# Altium footprint library th_cap.PcbLib: 14 footprints
Each footprint in its own frame and in the unit in brackets; x right, y up, seen from the top. Pads: shape width x height; smd on the part's side, far side on the other; paste and mask are expansions set on the pad; w line width, h text height; cw(c..) or ccw(c..) is an arc to the next point about the centre after c.
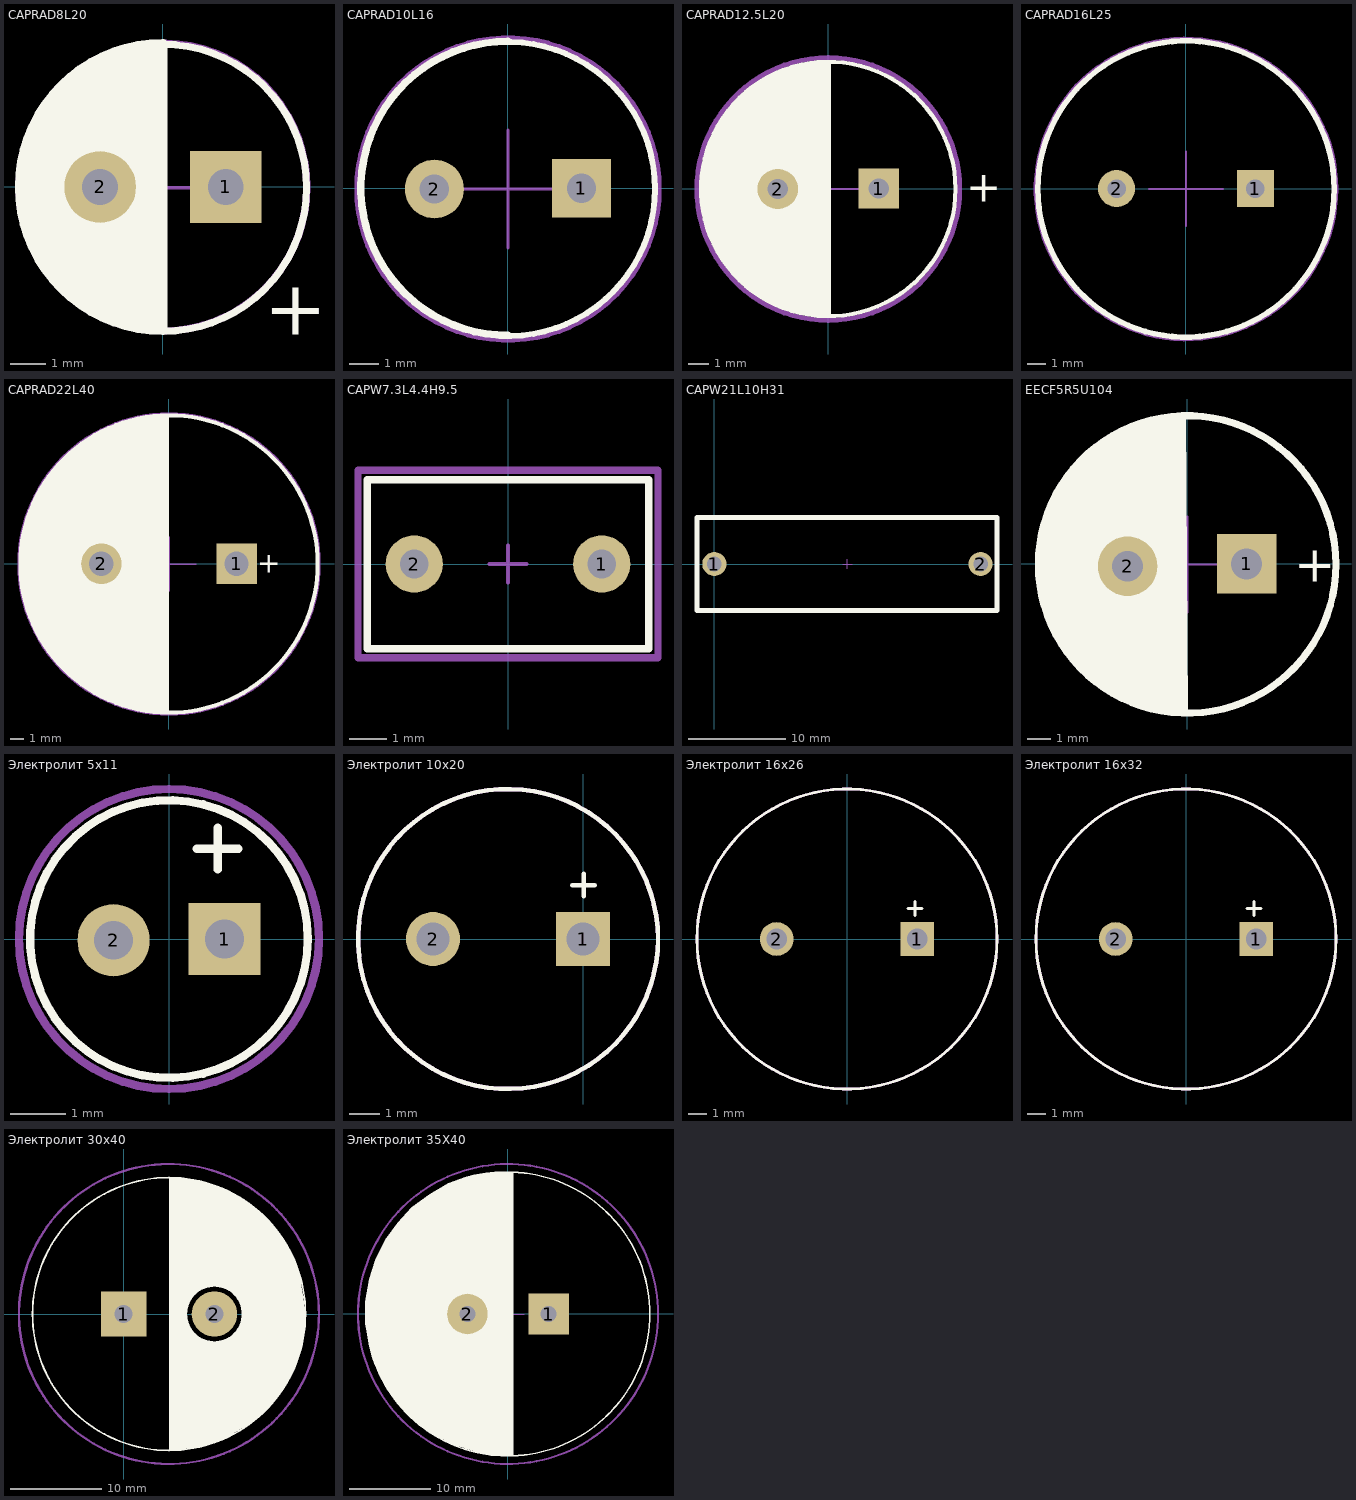
[diagram p0: the footprints below, top view; thin cyan lines are the x and y axes]

## CAPRAD8L20 [mm] "Jamicon 1000uFx16V"
pads (2):
  rect 2x2 hole 1: 1(1.75,0)
  round 2 hole 1: 2(-1.75,0)
Top Overlay:
  circle w0.2: c0.002,-0.023 r4
  region: 0.002,-4 -0.313,-4 -0.935,-3.902 -1.533,-3.707 -2.094,-3.421 -2.604,-3.051 -3.049,-2.606 -3.419,-2.097 -3.705,-1.536 -3.899,-0.937 -3.998,-0.315 -3.998,0.315 -3.899,0.937 -3.705,1.535 -3.419,2.096 -3.049,2.606 -2.604,3.051 -2.094,3.421 -1.533,3.707 -0.935,3.901 -0.313,4 0.002,4
  lines w0.254: 0,-4 cw(c0,0) 0,4 0,-4
  text "+" at 2.826,-4.125 h1.52
Bottom Overlay:
  text "+" at 2.826,-4.102 h1.52
Mechanical 15:
  lines w0.1: -1.998,-0.023 2.002,-0.023 ; 0.002,-2.023 0.002,1.977
Mechanical 29:
  circle w0.2: c0,0 r4.011
  text ".Designator" at -2.1,1.3 h2
3D body "CAPRAD8L20.step": height 19.83, standoff -3.34, extent -3.976,-4 4,3.976

## CAPRAD10L16 [mm] "Jamicon 1000uFx16V"
pads (2):
  rect 2x2 hole 1: 1(2.5,0)
  round 2 hole 1: 2(-2.5,-0.023)
Top Overlay:
  circle w0.2: c0.002,-0.023 r5
  lines w0.254: 0,-5 cw(c0,0) 0,5
Mechanical 15:
  circle w0.254: c0.002,-0.023 r5.1
  lines w0.1: -1.998,-0.023 2.002,-0.023 ; 0.002,-2.023 0.002,1.977
3D body "Cap electro 10x16x5_0mm.step": height 16.33, standoff -3.94, extent -5.025,-5.025 5.025,5.025

## CAPRAD12.5L20 [mm] "Jamicon 22uFx250V"
pads (2):
  rect 2x2 hole 1: 1(2.5,0)
  round 2 hole 1: 2(-2.5,-0.023)
Top Overlay:
  circle w0.2: c0.002,-0.023 r6.3
  region: 0,-6.249 -0.351,-6.249 -1.048,-6.17 -1.733,-6.014 -2.395,-5.782 -3.027,-5.478 -3.622,-5.104 -4.17,-4.667 -4.667,-4.17 -5.104,-3.622 -5.478,-3.027 -5.782,-2.395 -6.014,-1.733 -6.17,-1.048 -6.249,-0.351 -6.249,0.351 -6.17,1.048 -6.014,1.733 -5.782,2.395 -5.478,3.027 -5.104,3.622 -4.667,4.17 -4.17,4.667 -3.622,5.104 -3.027,5.478 -2.395,5.782 -1.733,6.014 -1.048,6.17 -0.351,6.249 0,6.249
  lines w0.254: 0,-6.249 cw(c0,0) 0,6.249 0,-6.249
  text "+" at 6.833,-0.66 h1.52
Bottom Overlay:
  text "+" at 6.833,-0.66 h1.52
Mechanical 15:
  circle w0.254: c0.002,-0.023 r6.5
  lines w0.1: -1.998,-0.023 2.002,-0.023 ; 0.002,-2.023 0.002,1.977
3D body "Cap-EL(12_5x20-5)T.step": height 20.7, standoff -3.3, extent -6.252,-6.242 6.25,6.241

## CAPRAD16L25 [mm] "TKR102M1JK32, 100u/63V"
pads (2):
  rect 2x2 hole 1: 1(3.75,0)
  round 2 hole 1: 2(-3.75,0)
Top Overlay:
  circle w0.3: c0.002,-0.023 r8
Mechanical 15:
  circle w0.254: c0.002,-0.023 r8.1
  lines w0.1: -1.998,-0.023 2.002,-0.023 ; 0,-2 0,2 ; 0.002,-2.023 0.002,1.977
3D body "CAP JAMICON_TK_D(16)F(7_5)L(25).STEP": height 25.23, standoff -1.3, extent -8.03,-8 7.986,8

## CAPRAD22L40 [mm] "ECAP 1000uFx100V"
pads (2):
  rect 3x3 hole 1.8: 1(5,0)
  round 3 hole 1.8: 2(-5,0)
Top Overlay:
  circle w0.3: c0.002,-0.023 r11
  region: 0,-10.987 -0.48,-10.987 -1.436,-10.904 -2.382,-10.737 -3.309,-10.488 -4.211,-10.16 -5.081,-9.754 -5.912,-9.275 -6.698,-8.724 -7.433,-8.107 -8.112,-7.428 -8.729,-6.693 -9.28,-5.907 -9.76,-5.075 -10.165,-4.205 -10.494,-3.303 -10.742,-2.376 -10.909,-1.431 -10.992,-0.475 -10.992,0.485 -10.909,1.441 -10.742,2.387 -10.494,3.314 -10.165,4.216 -9.76,5.086 -9.28,5.917 -8.729,6.703 -8.112,7.439 -7.433,8.117 -6.698,8.734 -5.912,9.285 -5.081,9.765 -4.211,10.17 -3.309,10.499 -2.382,10.747 -1.436,10.914 -0.48,10.998 0,10.998
  text "+" at 6.528,-0.66 h1.52
Bottom Overlay:
  text "+" at 6.528,-0.66 h1.52
Mechanical 15:
  circle w0.254: c0.002,-0.023 r11.1
  lines w0.1: -1.998,-0.023 2.002,-0.023 ; 0.002,-2.023 0.002,1.977
3D body "Cap electrolitic radial 22x40.STEP": height 40.6, standoff -0.9, extent -10.996,-10.998 10.996,10.985

## CAPW7.3L4.4H9.5 [mil] "Epcos B32529C0105K000, К73-17 имп, 1 мкФ, 63 В, 10%, Конденсатор металлоплёночный"
pads (2):
  round 60 hole 30: 1(98.43,0) 2(-98.43,0)
Top Overlay:
  lines w7.87: -147.64,-88.88 147.64,-88.88 147.64,88.28 -147.64,88.28 -147.64,-88.88
Mechanical 15:
  lines w3.94: -19.68,0 19.68,0 ; 0,-19.68 0,19.68
  lines w7.87: -157.48,-98.43 157.48,-98.43 157.48,98.43 -157.48,98.43 -157.48,-98.43
3D body "CAP_MKT_B32529.step": height 255.91, standoff -70.92, extent -143.7,-59.06 143.7,59.06

## CAPW21L10H31 [mm] "К73-17 1мкФ/400В"
height 31
pads (2):
  round 2.5 hole 1.5: 1(0,0) 2(27.5,0)
Top Overlay:
  lines w0.5: -1.8,-4.8 -1.8,4.8 29.2,4.8 29.2,-4.8 -1.8,-4.8
Mechanical 15:
  lines w0.1: 13.25,0 14.25,0 ; 13.75,-0.5 13.75,0.5
  lines w0.2: -1.8,-4.8 29.2,-4.8 29.2,4.7 -1.8,4.7 -1.8,-4.8
3D body "K73-17.STEP": height 20.4, standoff -0.62, extent -1.8,-4.755 29.2,4.755

## EECF5R5U104 [mm] "ECAP 1000uFx100V"
height 10
pads (2):
  rect 2.5x2.5 hole 1.3: 1(2.5,0.005)
  round 2.5 hole 1.3: 2(-2.5,-0.098)
Top Overlay:
  circle w0.3: c0.002,-0.023 r6.25
  region: 0.023,-6.242 -0.286,-6.246 -0.903,-6.193 -1.511,-6.079 -2.105,-5.907 -2.68,-5.677 -3.229,-5.392 -3.747,-5.054 -4.23,-4.667 -4.673,-4.235 -5.071,-3.762 -5.421,-3.251 -5.719,-2.709 -5.962,-2.141 -6.149,-1.551 -6.277,-0.945 -6.345,-0.33 -6.349,-0.021 -6.349,0.288 -6.288,0.902 -6.168,1.508 -5.988,2.099 -5.752,2.67 -5.461,3.215 -5.118,3.728 -4.726,4.206 -4.289,4.643 -3.812,5.034 -3.298,5.378 -2.753,5.669 -2.183,5.905 -1.592,6.084 -0.986,6.205 -0.371,6.265 -0.062,6.265
  text "+" at 4.5,-0.75 h1.52
Bottom Overlay:
  text "+" at 6.528,-0.66 h1.52
Mechanical 15:
  circle w0.254: c0.002,-0.023 r6.25
  lines w0.1: -1.998,-0.023 2.002,-0.023 ; 0.002,-2.023 0.002,1.977
3D body "EECF5R5U104.STEP": height 7.6, standoff -4.9, extent -6.523,-6.548 6.516,6.502

## Электролит 5x11 [mm]
pads (2):
  rect 1.3x1.3 hole 0.7: 1(1,0)
  round 1.3 hole 0.7: 2(-0.998,-0.023)
Top Overlay:
  circle w0.15: c0,0 r2.5
  lines w0.15: 0.5,1.625 1.25,1.625 ; 0.875,1.25 0.875,2
Mechanical 15:
  circle w0.15: c0,0 r2.7
3D body "Cap electro 5x11x2mm.step": height 11.53, standoff -3.27, extent -2.551,-2.525 2.5,2.525

## Электролит 10x20 [mm]
pads (2):
  rect 1.8x1.8 hole 1.1: 1(0,0)
  round 1.8 hole 1.1: 2(-5,0)
Top Overlay:
  circle w0.15: c-2.5,0 r5
  lines w0.15: -0.35,1.8 0.4,1.8 ; 0.025,1.425 0.025,2.175
Mechanical 15:
  circle w0.15: c-2.5,0 r5
3D body "Cap electro 10x20x5_0mm.step": height 20.53, standoff -3.74, extent -7.325,-4.925 2.725,5.125

## Электролит 16x26 [mm]
pads (2):
  rect 1.8x1.8 hole 1.1: 1(3.75,0)
  round 1.8 hole 1.1: 2(-3.75,0)
Top Overlay:
  circle w0.15: c0,0 r8
  lines w0.15: 3.25,1.625 4,1.625 ; 3.625,1.25 3.625,2
Mechanical 15:
  circle w0.15: c0,0 r8
3D body "CAP JAMICON_TK_D(16)F(7_5)L(25).STEP": height 25.03, standoff -1.5, extent -8.03,-8 8,8

## Электролит 16x32 [mm]
pads (2):
  rect 1.8x1.8 hole 1.1: 1(3.75,0)
  round 1.8 hole 1.1: 2(-3.75,0)
Top Overlay:
  circle w0.15: c0,0 r8
  lines w0.15: 3.25,1.625 4,1.625 ; 3.625,1.25 3.625,2
Mechanical 15:
  circle w0.15: c0,0 r8
3D body "CAP JAMICON_TK_D(16)F(7_5)L(31_5).STEP": height 31.53, standoff -1.5, extent -8.03,-8 8,8

## Электролит 30x40 [mm] "Epcos B41505A4229M000 22`000uF х 16V"
pads (2):
  rect 5x5 hole 2: 1(0,0)
  round 5 hole 2: 2(10,0)
Top Overlay:
  circle w1: c9.997,0 r3.5
  circle w0.2: c5,0 r15
  region: 5.88,14.87 7.048,14.87 7.099,14.819 8.026,14.63 10.02,14.159 12.128,13.143 14.109,11.898 15.786,10.324 17.335,8.495 18.453,6.59 19.24,4.482 19.774,1.865 19.951,-0.167 19.799,-2.148 19.52,-3.291 19.291,-4.485 18.173,-7.075 17.31,-8.676 15.76,-10.377 14.262,-11.8 12.458,-12.917 10.833,-13.806 10.02,-14.187 7.937,-14.721 5.931,-14.924 5.107,-14.947 5.016,-14.858 5.042,14.972 5.778,14.972 hole: 9.975,3.231 9.947,3.225 9.919,3.225 8.649,2.945 8.628,2.936 8.605,2.932 8.582,2.916 8.556,2.905 8.541,2.888 8.521,2.876 8.47,2.824 8.374,2.824 8.275,2.805 8.191,2.749 7.802,2.359 7.742,2.347 7.658,2.291 7.607,2.215 7.048,1.656 6.992,1.572 6.972,1.473 6.972,1.022 6.921,0.971 6.865,0.887 6.845,0.787 6.845,0.31 6.82,0.285 6.764,0.201 6.744,0.102 6.744,-0.686 6.764,-0.785 6.82,-0.869 6.922,-0.971 6.922,-1.092 6.941,-1.191 6.997,-1.275 7.252,-1.53 7.252,-1.676 7.272,-1.776 7.328,-1.86 7.861,-2.393 7.869,-2.398 7.881,-2.461 7.937,-2.545 8.242,-2.85 8.326,-2.906 8.425,-2.926 8.851,-2.926 9.156,-3.231 9.24,-3.287 9.34,-3.307 10.813,-3.307 10.912,-3.287 10.996,-3.231 11.199,-3.028 11.321,-3.028 11.42,-3.008 11.504,-2.952 11.95,-2.506 11.979,-2.5 12.063,-2.444 12.647,-1.86 12.703,-1.776 12.723,-1.676 12.723,-1.657 12.952,-1.428 13.008,-1.344 13.028,-1.245 13.028,-0.869 13.079,-0.818 13.135,-0.734 13.155,-0.635 13.155,-0.076 13.135,0.023 13.079,0.107 13.053,0.133 13.053,0.686 13.033,0.785 12.977,0.869 12.875,0.971 12.875,1.346 12.855,1.445 12.799,1.529 12.537,1.791 12.525,1.852 12.469,1.936 11.972,2.433 11.966,2.461 11.91,2.545 11.826,2.601 11.727,2.621 11.682,2.621 11.402,2.901 11.318,2.957 11.219,2.977 10.996,2.977 10.869,3.104 10.785,3.16 10.686,3.18 10.125,3.18 10.114,3.19 10.093,3.198 10.074,3.211 10.046,3.217 10.02,3.227 9.997,3.226
Mechanical 15:
  circle w0.254: c5,0 r16.492
3D body "User Library-Assy_CE_R400_D1200_H2000.STEP": height 51.3, standoff -6.39, extent -10.25,-15.239 20.23,15.239

## Электролит 35X40 [mm] "Epcos  22`000uF х 25V"
pads (2):
  rect 5x5 hole 2: 1(5.002,-0.023)
  round 5 hole 2: 2(-4.998,-0.023)
Top Overlay:
  circle w0.2: c0.002,-0.023 r17.5
  region: 0.625,17.5 -1.625,17.5 -2.75,17.375 -4.25,17.125 -5.125,16.875 -7.375,16.125 -9.625,14.75 -11.875,13.125 -13.625,11.25 -15.125,9.125 -16.375,6.625 -17.125,4.25 -17.625,1.5 -17.625,-1.25 -17.125,-3.75 -16.375,-6.375 -15.125,-8.875 -13.625,-11 -13.25,-11.375 -11.75,-13 -9.75,-14.5 -7,-16 -4.375,-16.875 -2.125,-17.5 0.625,-17.5
Mechanical 15:
  circle w0.254: c0.002,-0.023 r18.5
  lines w0.1: -1.998,-0.023 2.002,-0.023 ; 0.002,-2.023 0.002,1.977
3D body: height 40, standoff 0, extent -17.5,-17.465 17.362,17.465